# EAGLE library part NEOWAY-M680 (library X893)
http://wless.ru/news/?action=details&id=543&pf=tech&pf_id=2&prod=35&tech=2&type=34
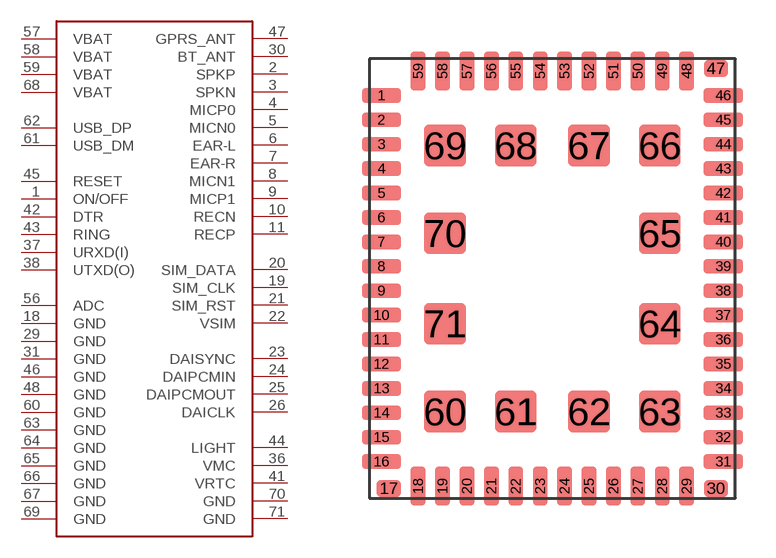
[diagram p203: symbol with the pads of NEOWAY-M680; footprint NEOWAY-M680]

Designator prefix U

## NEOWAY-M680  [NEOWAY-M680]
1  ON/OFF  in
2  SPKP
3  SPKN
4  MICP0
5  MICN0
6  EAR-L
7  EAR-R
8  MICN1
9  MICP1
10  RECN
11  RECP
12  NC  nc
13  NC  nc
14  NC  nc
15  NC  nc
16  NC  nc
17  NC  nc
18  GND  pwr
19  SIM_CLK
20  SIM_DATA
21  SIM_RST
22  VSIM
23  DAISYNC
24  DAIPCMIN
25  DAIPCMOUT
26  DAICLK
27  NC  nc
28  NC  nc
29  GND  pwr
30  BT_ANT  pas
31  GND  pwr
32  NC  nc
33  NC  nc
34  NC  nc
35  NC  nc
36  VMC  pas
37  URXD(I)  in
38  UTXD(O)  out
39  NC  nc
40  NC  nc
41  VRTC  pas
42  DTR  in
43  RING  out
44  LIGHT  out
45  RESET  in
46  GND  pwr
47  GPRS_ANT  pas
48  GND  pwr
49  NC  nc
50  NC  nc
51  NC  nc
52  NC  nc
53  NC  nc
54  NC  nc
55  NC  nc
56  ADC  in
57  VBAT  pwr
58  VBAT  pwr
59  VBAT  pwr
60  GND  pwr
61  USB_DM
62  USB_DP
63  GND  pwr
64  GND  pwr
65  GND  pwr
66  GND  pwr
67  GND  pwr
68  VBAT  pwr
69  GND  pwr
70  GND  pwr
71  GND  pwr

## Footprint NEOWAY-M680 (pad centres in mm)
smd 1.6 x 0.6: 1 -7,7.5; 2 -7,6.5; 3 -7,5.5; 4 -7,4.5; 5 -7,3.5; 6 -7,2.5; 7 -7,1.5; 8 -7,0.5; 9 -7,-0.5; 10 -7,-1.5; 11 -7,-2.5; 12 -7,-3.5; 13 -7,-4.5; 14 -7,-5.5; 15 -7,-6.5; 16 -7,-7.5; 31 7,-7.5; 32 7,-6.5; 33 7,-5.5; 34 7,-4.5; 35 7,-3.5; 36 7,-2.5; 37 7,-1.5; 38 7,-0.5; 39 7,0.5; 40 7,1.5; 41 7,2.5; 42 7,3.5; 43 7,4.5; 44 7,5.5; 45 7,6.5; 46 7,7.5
smd 1 x 0.7: 17 -6.7,-8.6; 30 6.7,-8.6; 47 6.7,8.6
smd 0.6 x 1.6: 18 -5.5,-8.5; 19 -4.5,-8.5; 20 -3.5,-8.5; 21 -2.5,-8.5; 22 -1.5,-8.5; 23 -0.5,-8.5; 24 0.5,-8.5; 25 1.5,-8.5; 26 2.5,-8.5; 27 3.5,-8.5; 28 4.5,-8.5; 29 5.5,-8.5; 48 5.5,8.5; 49 4.5,8.5; 50 3.5,8.5; 51 2.5,8.5; 52 1.5,8.5; 53 0.5,8.5; 54 -0.5,8.5; 55 -1.5,8.5; 56 -2.5,8.5; 57 -3.5,8.5; 58 -4.5,8.5; 59 -5.5,8.5
smd 1.7 x 1.7: 60 -4.4,-5.45; 61 -1.5,-5.45; 62 1.5,-5.45; 63 4.4,-5.45; 64 4.4,-1.85; 65 4.4,1.85; 66 4.4,5.45; 67 1.5,5.45; 68 -1.5,5.45; 69 -4.4,5.45; 70 -4.4,1.85; 71 -4.4,-1.85